# Altium footprint library SN74HC245DWR.PcbLib: 2 footprints
Each footprint in its own frame and in the unit in brackets; x right, y up, seen from the top. Pads: shape width x height; smd on the part's side, far side on the other; paste and mask are expansions set on the pad; w line width, h text height; cw(c..) or ccw(c..) is an arc to the next point about the centre after c.
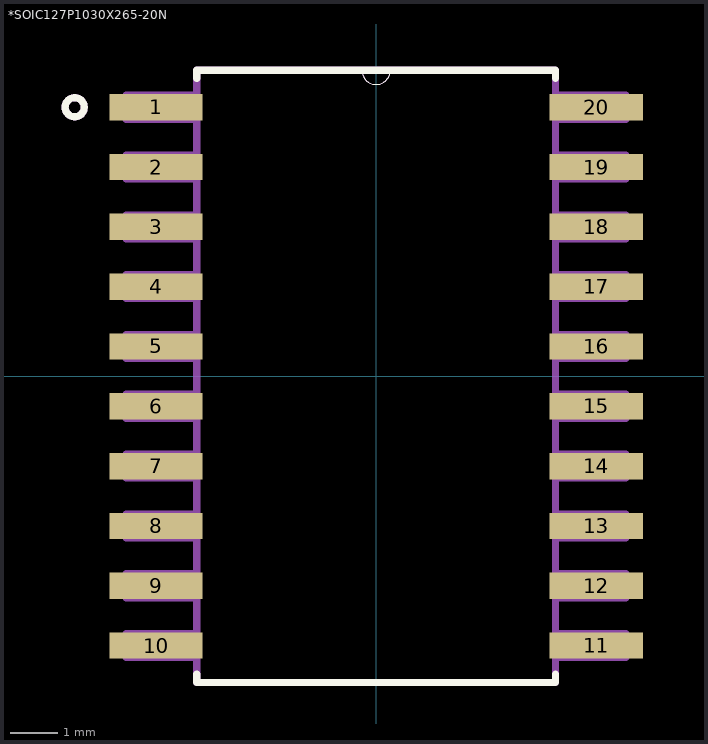
[diagram p0: the footprints below, top view; thin cyan lines are the x and y axes]

## *SOIC127P1030X265-20N [mil]
pads (20):
  rect 78x22 smd: 1(-184,225) 2(-184,175) 3(-184,125) 4(-184,75) 5(-184,25) 6(-184,-25) 7(-184,-75) 8(-184,-125) 9(-184,-175) 10(-184,-225) 11(184,-225) 12(184,-175) 13(184,-125) 14(184,-75) 15(184,-25) 16(184,25) 17(184,75) 18(184,125) 19(184,175) 20(184,225)
Top Overlay:
  lines w0: -12,256 ccw(c0,256) 12,256
  lines w6: -150,-249 -150,-256 150,-256 150,-249 ; -150,249 -150,256 -12,256 12,256 150,256 150,249 ; -260,225 cw(c-252,225) -244,225 cw(c-252,225) -260,225
Mechanical 4:
  drawing of 178 lines, arcs and shapes, not listed

## PCBComponent_1 [mil]